# Altium footprint library DK2.PcbLib: 64 footprints (part 2 of 4)
Each footprint in its own frame and in the unit in brackets; x right, y up, seen from the top. Pads: shape width x height; smd on the part's side, far side on the other; paste and mask are expansions set on the pad; w line width, h text height; cw(c..) or ccw(c..) is an arc to the next point about the centre after c.
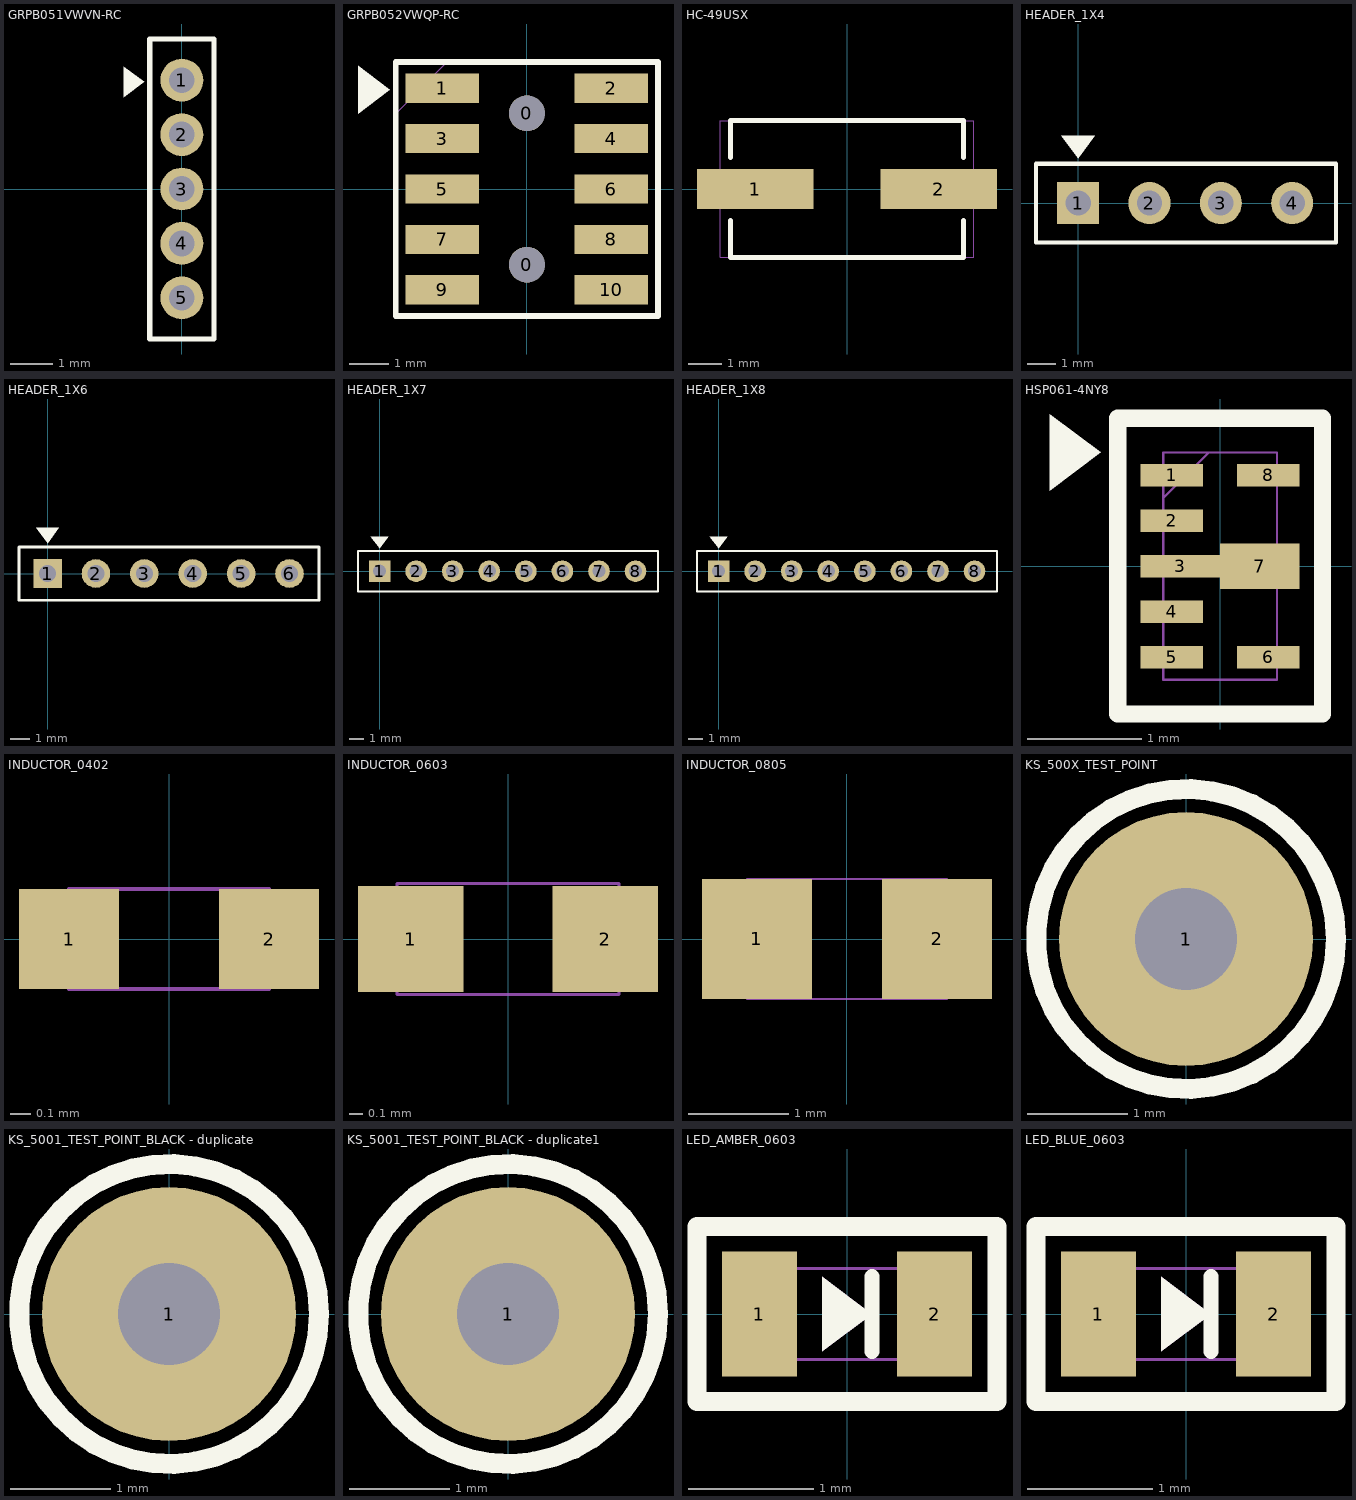
[diagram p1: the footprints below, top view; thin cyan lines are the x and y axes]

## GRPB051VWVN-RC [mm]
pads (5):
  round 1 hole 0.6 mask+0.064: 1(0,2.54) 2(0,1.27) 3(0,0) 4(0,-1.27) 5(0,-2.54)
Top Overlay:
  region: -0.875,2.5 -1.35,2.144 -1.35,2.856
  lines w0.125: -0.75,-3.5 0.75,-3.5 0.75,3.5 -0.75,3.5 -0.75,-3.5

## GRPB052VWQP-RC [mm]
pads (12):
  round 0.9 hole 0.9 unplated mask+0.076: 0(0,-1.905) 0(0,1.905)
  rect 1.85x0.74 smd paste-1 mask+0.05: 1(-2.125,2.54) 2(2.125,2.54) 3(-2.125,1.27) 4(2.125,1.27) 5(-2.125,0) 6(2.125,0) 7(-2.125,-1.27) 8(2.125,-1.27) 9(-2.125,-2.54) 10(2.125,-2.54)
Top Overlay:
  region: -3.45,2.5 -4.25,1.9 -4.25,3.1
  lines w0.15: -3.3,-3.2 -3.3,3.2 3.3,3.2 3.3,-3.2 -3.3,-3.2
Mechanical 1:
  lines w0.02: -3.3,1.9 -2,3.2 ; -3.3,-3.2 3.3,-3.2 3.3,3.2 -3.3,3.2 -3.3,-3.2

## HC-49USX [mm]
pads (2):
  rect 3.5x1.2 smd mask+0.051: 1(-2.75,0) 2(2.75,0)
Top Overlay:
  lines w0.15: -3.5,-0.95 -3.5,-2.05 3.5,-2.05 3.5,-0.95 ; -3.5,0.95 -3.5,2.05 3.5,2.05 3.5,0.95
Mechanical 1:
  lines w0.02: -3.8,-2.05 3.8,-2.05 3.8,2.05 -3.8,2.05 -3.8,-2.05
3D body: height 2.35, standoff 0.05, extent -3.8,-2.05 3.8,2.05

## HEADER_1X4 [mm]
pads (4):
  rect 1.5x1.5 hole 0.9 mask+0.076: 1(0,0)
  round 1.5 hole 0.9 mask+0.076: 2(2.54,0) 3(5.08,0) 4(7.62,0)
Top Overlay:
  region: 0,1.6 -0.6,2.4 0.6,2.4
  lines w0.15: 9.15,-1.4 -1.5,-1.4 -1.5,1.4 9.15,1.4 ; 9.18,-1.4 9.18,1.4

## HEADER_1X6 [mm]
pads (6):
  rect 1.5x1.5 hole 0.9 mask+0.076: 1(0,0)
  round 1.5 hole 0.9 mask+0.076: 2(2.54,0) 3(5.08,0) 4(7.62,0) 5(10.16,0) 6(12.7,0)
Top Overlay:
  region: 0,1.6 -0.6,2.4 0.6,2.4
  lines w0.15: -1.5,-1.4 -1.5,1.4 14.25,1.4 14.25,-1.4 -1.5,-1.4

## HEADER_1X7 [mm]
pads (8):
  rect 1.5x1.5 hole 0.9 mask+0.076: 1(0,0)
  round 1.5 hole 0.9 mask+0.076: 2(2.54,0) 3(5.08,0) 4(7.62,0) 5(10.16,0) 6(12.7,0) 7(15.24,0) 8(17.78,0)
Top Overlay:
  region: 0,1.6 -0.6,2.4 0.6,2.4
  lines w0.15: -1.5,-1.4 -1.5,1.4 19.34,1.4 19.34,-1.4 -1.5,-1.4

## HEADER_1X8 [mm]
pads (8):
  rect 1.5x1.5 hole 0.9 mask+0.076: 1(0,0)
  round 1.5 hole 0.9 mask+0.076: 2(2.54,0) 3(5.08,0) 4(7.62,0) 5(10.16,0) 6(12.7,0) 7(15.24,0) 8(17.78,0)
Top Overlay:
  region: 0,1.6 -0.6,2.4 0.6,2.4
  lines w0.15: 19.325,-1.4 -1.5,-1.4 -1.5,1.4 19.34,1.4 19.34,-1.4

## HSP061-4NY8 [mm]
pads (8):
  rect 0.55x0.2 smd paste-1 mask+0.051: 1(-0.425,0.8) 2(-0.425,0.4) 4(-0.425,-0.4) 5(-0.425,-0.8) 6(0.425,-0.8) 8(0.425,0.8)
  rect 0.7x0.2 smd paste-1 mask+0.051: 3(-0.35,0)
  rect 0.7x0.4 smd paste-0.013 mask+0.051: 7(0.35,0)
Top Overlay:
  region: -1.05,1 -1.5,0.663 -1.5,1.338
  lines w0.15: -0.9,-1.3 0.9,-1.3 0.9,1.3 -0.9,1.3 -0.9,-1.3
Top Paste:
  rectangle: -0.69,-0.893 -0.16,-0.707
  rectangle: 0.16,-0.893 0.69,-0.707
  rectangle: -0.69,-0.493 -0.16,-0.307
  rectangle: -0.69,0.307 -0.16,0.493
  rectangle: -0.69,0.707 -0.16,0.893
  rectangle: 0.16,0.707 0.69,0.893
  rectangle: -0.687,-0.093 -0.013,0.093
Mechanical 1:
  lines w0.02: -0.5,0.6 -0.1,1 ; -0.5,-1 0.5,-1 0.5,1 -0.5,1 -0.5,-1
3D body: height 0.5, standoff 0, extent -0.5,-1 0.5,1

## INDUCTOR_0402 [mm]
pads (2):
  rect 0.5x0.5 smd mask+0.051: 1(-0.5,0) 2(0.5,0)
Mechanical 1:
  lines w0.02: -0.5,-0.25 0.5,-0.25 0.5,0.25 -0.5,0.25 -0.5,-0.25
3D body: height 0.6, standoff 0, extent -0.5,-0.25 0.5,0.25

## INDUCTOR_0603 [mil]
pads (2):
  rect 30x30 smd mask+2: 1(-27.56,0) 2(27.56,0)
Mechanical 1:
  lines w0.79: -31.5,-15.75 -31.5,15.75 31.5,15.75 31.5,-15.75 -31.5,-15.75
3D body: height 19.68, standoff 0, extent -31.5,-15.75 31.49,15.74

## INDUCTOR_0805 [mm]
pads (2):
  rect 1.1x1.2 smd mask+0.051: 1(-0.9,0) 2(0.9,0)
Mechanical 1:
  lines w0.02: -1,-0.6 1,-0.6 1,0.6 -1,0.6 -1,-0.6
3D body: height 1.3, standoff 0, extent -1,-0.6 1,0.6

## KS_500X_TEST_POINT [mm]
pads (1):
  round 2.54 hole 1.02 mask+0.076: 1(0,0)
Top Overlay:
  circle w0.2: c0,0 r1.5

## KS_5001_TEST_POINT_BLACK - duplicate [mm]
pads (1):
  round 2.54 hole 1.02 mask+0.076: 1(0,0)
Top Overlay:
  circle w0.2: c0,0 r1.5
3D body: height 4.89, standoff -3.07, extent -1.27,-1.27 1.27,1.27

## KS_5001_TEST_POINT_BLACK - duplicate1 [mm]
pads (1):
  round 2.54 hole 1.02 mask+0.076: 1(0,0)
Top Overlay:
  circle w0.2: c0,0 r1.5

## LED_AMBER_0603 [mm]
pads (2):
  rect 0.6x1 smd mask+0.064: 1(-0.7,0) 2(0.7,0)
Top Overlay:
  region: 0.2,0 -0.2,0.3 -0.2,-0.3
  lines w0.12: 0.2,-0.3 0.2,0.3
  lines w0.15: -1.2,-0.7 1.2,-0.7 1.2,0.7 -1.2,0.7 -1.2,-0.7
Mechanical 1:
  region: 0.2,0 -0.2,0.3 -0.2,-0.3
  lines w0.025: 0.2,-0.3 0.2,0.3 ; -0.825,-0.363 -0.825,0.363 0.826,0.363 0.826,-0.363 -0.825,-0.363
3D body: height 0.68, standoff 0, extent -0.825,-0.362 0.825,0.363

## LED_BLUE_0603 [mm]
pads (2):
  rect 0.6x1 smd mask+0.064: 1(-0.7,0) 2(0.7,0)
Top Overlay:
  region: 0.2,0 -0.2,0.3 -0.2,-0.3
  lines w0.12: 0.2,-0.3 0.2,0.3
  lines w0.15: -1.2,-0.7 1.2,-0.7 1.2,0.7 -1.2,0.7 -1.2,-0.7
Mechanical 1:
  region: 0.2,0 -0.2,0.3 -0.2,-0.3
  lines w0.025: 0.2,-0.3 0.2,0.3 ; -0.825,-0.363 -0.825,0.363 0.826,0.363 0.826,-0.363 -0.825,-0.363
3D body: height 0.68, standoff 0, extent -0.825,-0.362 0.825,0.363